# EAGLE library part STM32L152R8H6 (library circuit_tree)
IC
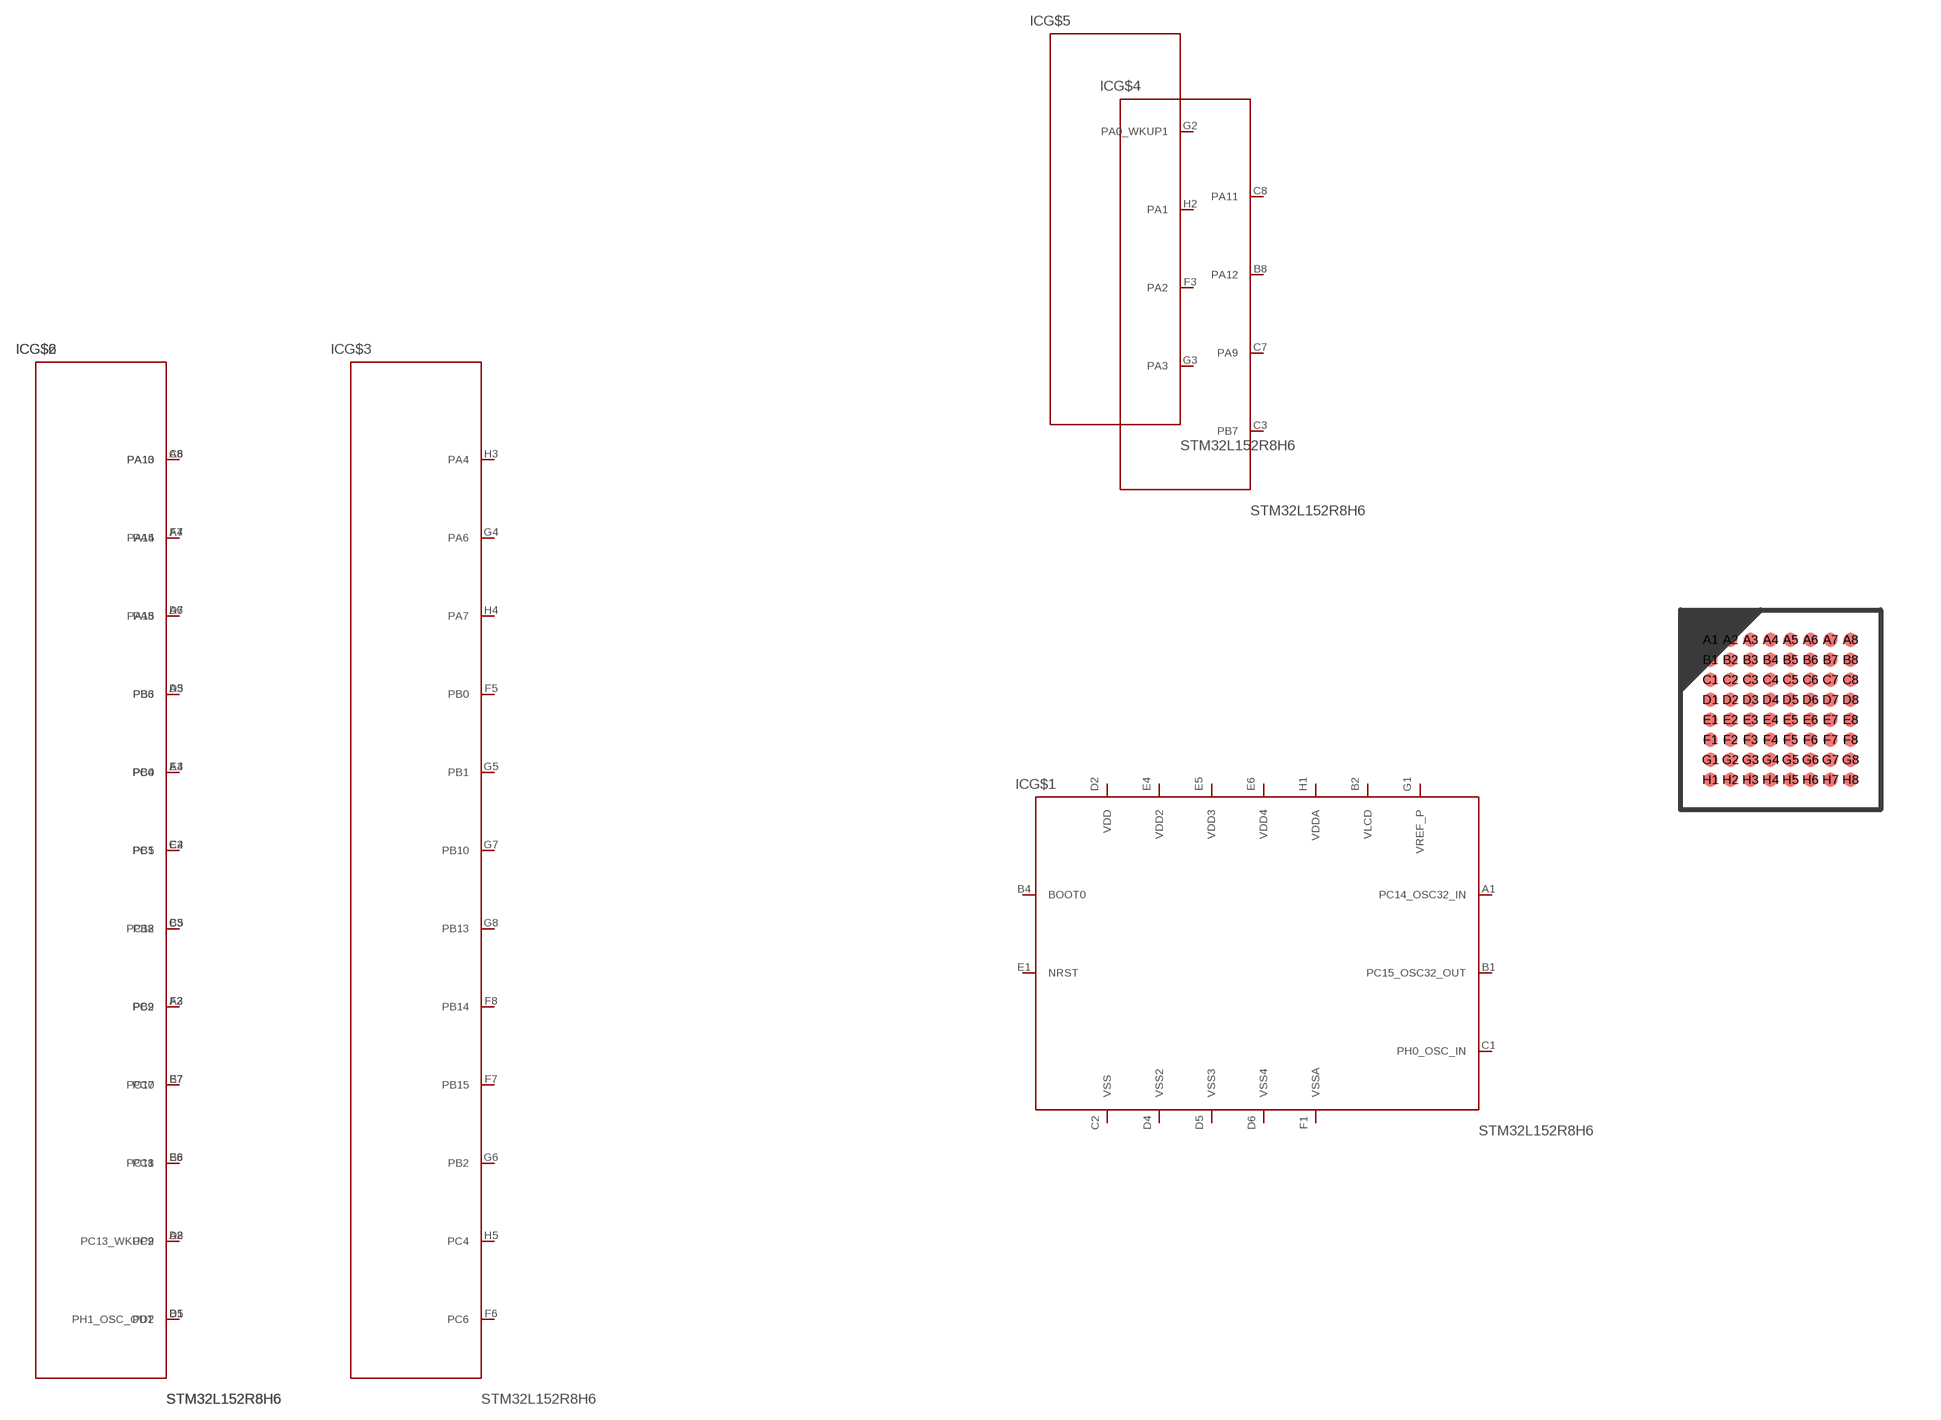
[diagram p4: symbol with the pads of TFBGA64; footprint TFBGA64]

Designator prefix IC; gates G$1=STM32L152R8H6 G$2=STM32L152R8H62 G$3=STM32L152R8H63 G$4=STM32L152R8H64 G$5=STM32L152R8H65 G$6=STM32L152R8H66

## STM32L152R8H6  [TFBGA64]
A1  G$1:PC14_OSC32_IN  pas
A2  G$6:PC13_WKUP2  pas
A3  G$6:PB9  pas
A4  G$6:PB4  pas
A5  G$6:PB3  pas
A6  G$6:PA15  pas
A7  G$6:PA14  pas
A8  G$6:PA13  pas
B1  G$1:PC15_OSC32_OUT  pas
B2  G$1:VLCD  pas
B3  G$6:PB8  pas
B4  G$1:BOOT0  pas
B5  G$6:PD2  pas
B6  G$6:PC11  pas
B7  G$6:PC10  pas
B8  G$4:PA12  pas
C1  G$1:PH0_OSC_IN  pas
C2  G$1:VSS  pas
C3  G$4:PB7  pas
C4  G$6:PB5  pas
C5  G$2:PC12  pas
C6  G$2:PA10  pas
C7  G$4:PA9  pas
C8  G$4:PA11  pas
D1  G$2:PH1_OSC_OUT  pas
D2  G$1:VDD  pas
D3  G$2:PB6  pas
D4  G$1:VSS2  pas
D5  G$1:VSS3  pas
D6  G$1:VSS4  pas
D7  G$2:PA8  pas
D8  G$2:PC9  pas
E1  G$1:NRST  pas
E2  G$2:PC1  pas
E3  G$2:PC0  pas
E4  G$1:VDD2  pas
E5  G$1:VDD3  pas
E6  G$1:VDD4  pas
E7  G$2:PC7  pas
E8  G$2:PC8  pas
F1  G$1:VSSA  pas
F2  G$2:PC2  pas
F3  G$5:PA2  pas
F4  G$2:PA5  pas
F5  G$3:PB0  pas
F6  G$3:PC6  pas
F7  G$3:PB15  pas
F8  G$3:PB14  pas
G1  G$1:VREF_P  pas
G2  G$5:PA0_WKUP1  pas
G3  G$5:PA3  pas
G4  G$3:PA6  pas
G5  G$3:PB1  pas
G6  G$3:PB2  pas
G7  G$3:PB10  pas
G8  G$3:PB13  pas
H1  G$1:VDDA  pas
H2  G$5:PA1  pas
H3  G$3:PA4  pas
H4  G$3:PA7  pas
H5  G$3:PC4  pas

## Footprint TFBGA64 (pad centres in mm)
TFBGA64 5 x 5 mm, 8 x 8-pin thin 0.5 mm pitch ball grid array package
smd 0.35 x 0.35: A1 -1.75,1.75; A2 -1.25,1.75; A3 -0.75,1.75; A4 -0.25,1.75; A5 0.25,1.75; A6 0.75,1.75; A7 1.25,1.75; A8 1.75,1.75; B1 -1.75,1.25; B2 -1.25,1.25; B3 -0.75,1.25; B4 -0.25,1.25; B5 0.25,1.25; B6 0.75,1.25; B7 1.25,1.25; B8 1.75,1.25; C1 -1.75,0.75; C2 -1.25,0.75; C3 -0.75,0.75; C4 -0.25,0.75; C5 0.25,0.75; C6 0.75,0.75; C7 1.25,0.75; C8 1.75,0.75; D1 -1.75,0.25; D2 -1.25,0.25; D3 -0.75,0.25; D4 -0.25,0.25; D5 0.25,0.25; D6 0.75,0.25; D7 1.25,0.25; D8 1.75,0.25; E1 -1.75,-0.25; E2 -1.25,-0.25; E3 -0.75,-0.25; E4 -0.25,-0.25; E5 0.25,-0.25; E6 0.75,-0.25; E7 1.25,-0.25; E8 1.75,-0.25; F1 -1.75,-0.75; F2 -1.25,-0.75; F3 -0.75,-0.75; F4 -0.25,-0.75; F5 0.25,-0.75; F6 0.75,-0.75; F7 1.25,-0.75; F8 1.75,-0.75; G1 -1.75,-1.25; G2 -1.25,-1.25; G3 -0.75,-1.25; G4 -0.25,-1.25; G5 0.25,-1.25; G6 0.75,-1.25; G7 1.25,-1.25; G8 1.75,-1.25; H1 -1.75,-1.75; H2 -1.25,-1.75; H3 -0.75,-1.75; H4 -0.25,-1.75; H5 0.25,-1.75; H6 0.75,-1.75; H7 1.25,-1.75; H8 1.75,-1.75